# Altium integrated library Linear Technology Power Management Switching Regulator LTC1174-LTC3901.IntLib: 2647 symbols (part 221 of 364)
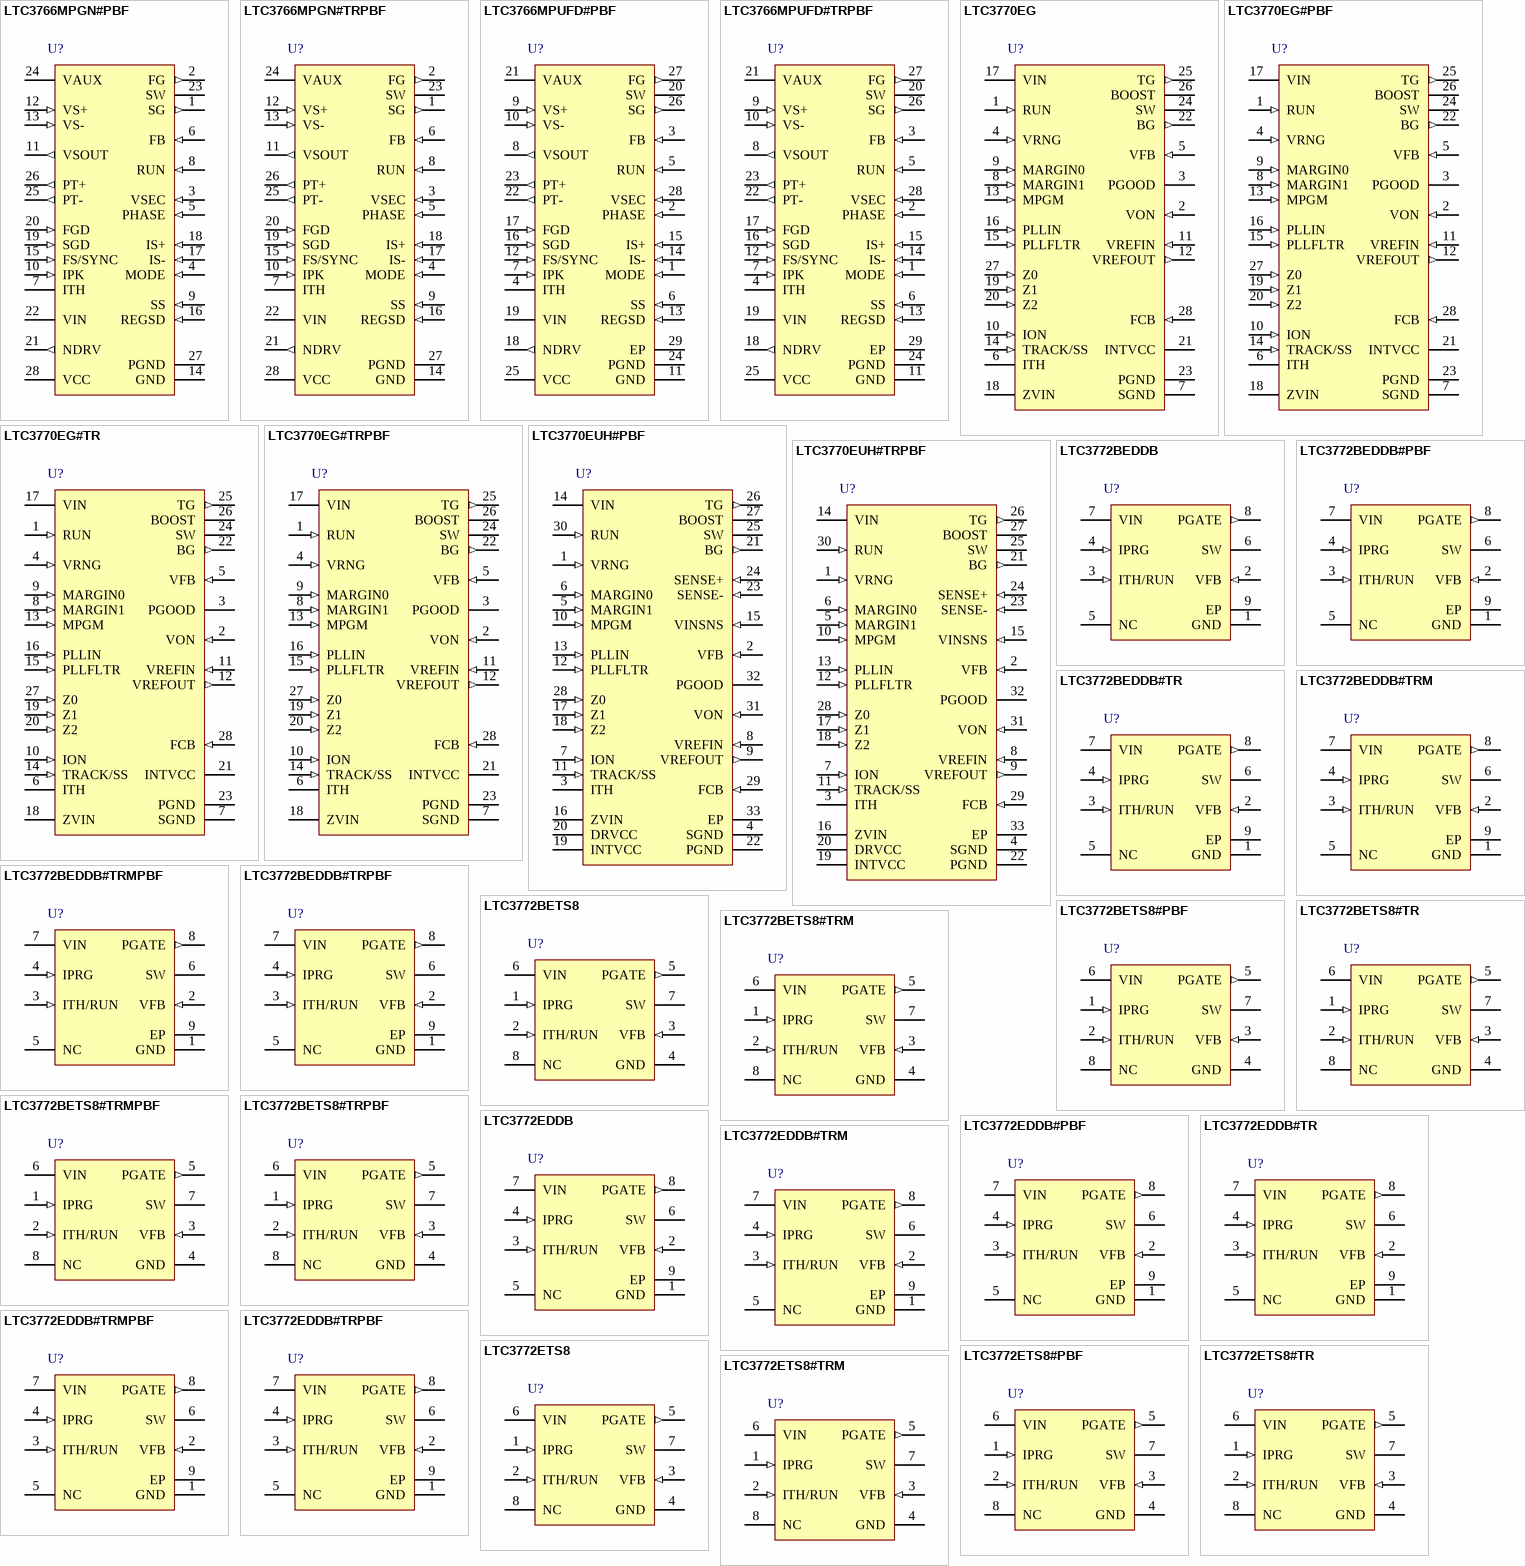
[diagram p329: symbols LTC3766MPGN#PBF to LTC3772ETS8#TRM]

## LTC3772BETS8#TR
designator U?
Micropower No Rsense Constant Frequency Step-Down DC/DC Controller, 8-pin SOT23 (TS8-8), -40 to 85 degC, Tape and Reel; Manufacturer: Linear Technology; PartNumber: LTC3772BETS8#TR; Number of Outputs: 1; DatasheetVersion: Rev. A; PackageVersion: Rev. A, 08/2010; PackageReference: TS8-8; PackageDescription: 8-Pin Plastic TSOT-23, Body 2.9 x 1.63 mm, Pitch 0.65 mm; Packing: Tape and Reel; RoHS: FALSE; Mounting Technology: Surface Mount; Code_JEDEC: MO-193; ComponentLink1Description: Manufacturer URL; ComponentLink1URL: http://www.linear.com/; ComponentLink2Description: Datasheet; ComponentLink2URL: http://cds.linear.com/docs/en/datasheet/3772bfa.pdf; ComponentLink3Description: Package Specification; ComponentLink3URL: http://cds.linear.com/docs/en/packaging/SOT_8_05-08-1637.pdf
footprint LT-TS8-8-TSOT-23_V (SOT23, 8-Leads, Body 2.9x1.75mm, Pitch 0.65mm)
pins: 1 IPRG (in) "Current Sense Limit Pin. Three-state pin selects maximum peak sense voltage threshold. The pin selects the maximum voltage drop across the external P-channel MOSFET.", 2 ITH/RUN (in) "This pin performs two functions. It serves as the error amplifier compensation point as well as the run control input. Nominal voltage range for this pin is 0.7V to 1.9V. Forcing this pin below 0.6V causes the device to be (See Datasheet)", 3 VFB (in) "Receives the feedback voltage from an external resistor divider across the output.", 4 GND (power) "Ground Pin.", 5 PGATE (out) "Gate Drive for the External P-Channel MOSFET. This pin swings from 0V to VIN.", 6 VIN (power) "Supply and Current Sense Input Pin. This pin must be closely decoupled to GND (Pin 4). Normally the external P-channel MOSFET’s source is connected to this pin.", 7 SW "Switch Node Connection to Inductor and Current Sense Input Pin. Normally, the external P-channel MOSFET’s drain is connected to this pin.", 8 NC "No Connection Required."

## LTC3772BETS8#TRM
designator U?
Micropower No Rsense Constant Frequency Step-Down DC/DC Controller, 8-pin SOT23 (TS8-8), -40 to 85 degC, Mini Tape and Reel; Manufacturer: Linear Technology; PartNumber: LTC3772BETS8#TRM; Number of Outputs: 1; DatasheetVersion: Rev. A; PackageVersion: Rev. A, 08/2010; PackageReference: TS8-8; PackageDescription: 8-Pin Plastic TSOT-23, Body 2.9 x 1.63 mm, Pitch 0.65 mm; Packing: Mini Tape and Reel; RoHS: FALSE; Mounting Technology: Surface Mount; Code_JEDEC: MO-193; ComponentLink1Description: Manufacturer URL; ComponentLink1URL: http://www.linear.com/; ComponentLink2Description: Datasheet; ComponentLink2URL: http://cds.linear.com/docs/en/datasheet/3772bfa.pdf; ComponentLink3Description: Package Specification; ComponentLink3URL: http://cds.linear.com/docs/en/packaging/SOT_8_05-08-1637.pdf
footprint LT-TS8-8-TSOT-23_V (SOT23, 8-Leads, Body 2.9x1.75mm, Pitch 0.65mm)
pins: 1 IPRG (in) "Current Sense Limit Pin. Three-state pin selects maximum peak sense voltage threshold. The pin selects the maximum voltage drop across the external P-channel MOSFET.", 2 ITH/RUN (in) "This pin performs two functions. It serves as the error amplifier compensation point as well as the run control input. Nominal voltage range for this pin is 0.7V to 1.9V. Forcing this pin below 0.6V causes the device to be (See Datasheet)", 3 VFB (in) "Receives the feedback voltage from an external resistor divider across the output.", 4 GND (power) "Ground Pin.", 5 PGATE (out) "Gate Drive for the External P-Channel MOSFET. This pin swings from 0V to VIN.", 6 VIN (power) "Supply and Current Sense Input Pin. This pin must be closely decoupled to GND (Pin 4). Normally the external P-channel MOSFET’s source is connected to this pin.", 7 SW "Switch Node Connection to Inductor and Current Sense Input Pin. Normally, the external P-channel MOSFET’s drain is connected to this pin.", 8 NC "No Connection Required."

## LTC3772BETS8#TRMPBF
designator U?
Micropower No Rsense Constant Frequency Step-Down DC/DC Controller, 8-pin SOT23 (TS8-8), -40 to 85 degC, Pb-Free, Mini Tape and Reel; Manufacturer: Linear Technology; PartNumber: LTC3772BETS8#TRMPBF; Number of Outputs: 1; DatasheetVersion: Rev. A; PackageVersion: Rev. A, 08/2010; PackageReference: TS8-8; PackageDescription: 8-Pin Plastic TSOT-23, Body 2.9 x 1.63 mm, Pitch 0.65 mm; Supplier 1: Digi-Key; Supplier Part Number 1: LTC3772BETS8#TRMPBF-ND; Packing: Mini Tape and Reel; RoHS: TRUE; Mounting Technology: Surface Mount; Code_JEDEC: MO-193; ComponentLink1Description: Manufacturer URL; ComponentLink1URL: http://www.linear.com/; ComponentLink2Description: Datasheet; ComponentLink2URL: http://cds.linear.com/docs/en/datasheet/3772bfa.pdf; ComponentLink3Description: Package Specification; ComponentLink3URL: http://cds.linear.com/docs/en/packaging/SOT_8_05-08-1637.pdf
footprint LT-TS8-8-TSOT-23_V (SOT23, 8-Leads, Body 2.9x1.75mm, Pitch 0.65mm)
pins: 1 IPRG (in) "Current Sense Limit Pin. Three-state pin selects maximum peak sense voltage threshold. The pin selects the maximum voltage drop across the external P-channel MOSFET.", 2 ITH/RUN (in) "This pin performs two functions. It serves as the error amplifier compensation point as well as the run control input. Nominal voltage range for this pin is 0.7V to 1.9V. Forcing this pin below 0.6V causes the device to be (See Datasheet)", 3 VFB (in) "Receives the feedback voltage from an external resistor divider across the output.", 4 GND (power) "Ground Pin.", 5 PGATE (out) "Gate Drive for the External P-Channel MOSFET. This pin swings from 0V to VIN.", 6 VIN (power) "Supply and Current Sense Input Pin. This pin must be closely decoupled to GND (Pin 4). Normally the external P-channel MOSFET’s source is connected to this pin.", 7 SW "Switch Node Connection to Inductor and Current Sense Input Pin. Normally, the external P-channel MOSFET’s drain is connected to this pin.", 8 NC "No Connection Required."

## LTC3772BETS8#TRPBF
designator U?
Micropower No Rsense Constant Frequency Step-Down DC/DC Controller, 8-pin SOT23 (TS8-8), -40 to 85 degC, Pb-Free, Tape and Reel; Manufacturer: Linear Technology; PartNumber: LTC3772BETS8#TRPBF; Number of Outputs: 1; DatasheetVersion: Rev. A; PackageVersion: Rev. A, 08/2010; PackageReference: TS8-8; PackageDescription: 8-Pin Plastic TSOT-23, Body 2.9 x 1.63 mm, Pitch 0.65 mm; Supplier 1: Digi-Key; Supplier Part Number 1: LTC3772BETS8#TRPBF-ND; Packing: Tape and Reel; RoHS: TRUE; Mounting Technology: Surface Mount; Code_JEDEC: MO-193; ComponentLink1Description: Manufacturer URL; ComponentLink1URL: http://www.linear.com/; ComponentLink2Description: Datasheet; ComponentLink2URL: http://cds.linear.com/docs/en/datasheet/3772bfa.pdf; ComponentLink3Description: Package Specification; ComponentLink3URL: http://cds.linear.com/docs/en/packaging/SOT_8_05-08-1637.pdf
footprint LT-TS8-8-TSOT-23_V (SOT23, 8-Leads, Body 2.9x1.75mm, Pitch 0.65mm)
pins: 1 IPRG (in) "Current Sense Limit Pin. Three-state pin selects maximum peak sense voltage threshold. The pin selects the maximum voltage drop across the external P-channel MOSFET.", 2 ITH/RUN (in) "This pin performs two functions. It serves as the error amplifier compensation point as well as the run control input. Nominal voltage range for this pin is 0.7V to 1.9V. Forcing this pin below 0.6V causes the device to be (See Datasheet)", 3 VFB (in) "Receives the feedback voltage from an external resistor divider across the output.", 4 GND (power) "Ground Pin.", 5 PGATE (out) "Gate Drive for the External P-Channel MOSFET. This pin swings from 0V to VIN.", 6 VIN (power) "Supply and Current Sense Input Pin. This pin must be closely decoupled to GND (Pin 4). Normally the external P-channel MOSFET’s source is connected to this pin.", 7 SW "Switch Node Connection to Inductor and Current Sense Input Pin. Normally, the external P-channel MOSFET’s drain is connected to this pin.", 8 NC "No Connection Required."

## LTC3772EDDB
designator U?
Micropower No Rsense Constant Frequency Step-Down DC/DC Controller, 8-pin SON (DDB-8), -40 to 85 degC; Manufacturer: Linear Technology; PartNumber: LTC3772EDDB; Number of Outputs: 1; PackageVersion: Rev. B, 06/2010; PackageReference: DDB-8; PackageDescription: 8-Pin Plastic DFN, Body 3 x 2 mm, Pitch 0.5 mm; RoHS: FALSE; Mounting Technology: Surface Mount; Code_JEDEC: MO-229; ComponentLink1Description: Manufacturer URL; ComponentLink1URL: http://www.linear.com/; ComponentLink2Description: Datasheet; ComponentLink2URL: http://cds.linear.com/docs/en/datasheet/3772f.pdf; ComponentLink3Description: Package Specification; ComponentLink3URL: http://cds.linear.com/docs/en/packaging/DFN_8_05-08-1702.pdf
footprint LT-DDB-8_V (SON, 8-Leads, Body 3x2mm, Pitch 0.5mm, Thermal Pad 2.2x0.61mm)
pins: 1 GND (power) "Ground Pin.", 2 VFB (in) "Receives the feedback voltage from an external resistor divider across the output.", 3 ITH/RUN (in) "This pin performs two functions. It serves as the error amplifier compensation point as well as the run control input. Nominal voltage range for this pin is 0.7V to 1.9V. Forcing this pin below 0.6V causes the device to be (See Datasheet)", 4 IPRG (in) "Shutdown and external soft-start pin. In shutdown, all functions are disabled and the NGATE pin is held low.", 5 NC "No Connection Required.", 6 SW "Switch Node Connection to Inductor and Current Sense Input Pin. Normally, the external P-channel MOSFET’s drain is connected to this pin.", 7 VIN (power) "Supply and Current Sense Input Pin. This pin must be closely decoupled to GND (Pin 4). Normally the external P-channel MOSFET’s source is connected to this pin.", 8 PGATE (out) "Gate Drive for the External P-Channel MOSFET. This pin swings from 0V to VIN.", 9 EP (power) "The Exposed Pad is ground and must be soldered to the PCB for electrical connection and optimum thermal performance."

## LTC3772EDDB#PBF
designator U?
Micropower No Rsense Constant Frequency Step-Down DC/DC Controller, 8-pin SON (DDB-8), -40 to 85 degC, Pb-Free; Manufacturer: Linear Technology; PartNumber: LTC3772EDDB#PBF; Number of Outputs: 1; PackageVersion: Rev. B, 06/2010; PackageReference: DDB-8; PackageDescription: 8-Pin Plastic DFN, Body 3 x 2 mm, Pitch 0.5 mm; RoHS: TRUE; Mounting Technology: Surface Mount; Code_JEDEC: MO-229; ComponentLink1Description: Manufacturer URL; ComponentLink1URL: http://www.linear.com/; ComponentLink2Description: Datasheet; ComponentLink2URL: http://cds.linear.com/docs/en/datasheet/3772f.pdf; ComponentLink3Description: Package Specification; ComponentLink3URL: http://cds.linear.com/docs/en/packaging/DFN_8_05-08-1702.pdf
footprint LT-DDB-8_V (SON, 8-Leads, Body 3x2mm, Pitch 0.5mm, Thermal Pad 2.2x0.61mm)
pins: 1 GND (power) "Ground Pin.", 2 VFB (in) "Receives the feedback voltage from an external resistor divider across the output.", 3 ITH/RUN (in) "This pin performs two functions. It serves as the error amplifier compensation point as well as the run control input. Nominal voltage range for this pin is 0.7V to 1.9V. Forcing this pin below 0.6V causes the device to be (See Datasheet)", 4 IPRG (in) "Shutdown and external soft-start pin. In shutdown, all functions are disabled and the NGATE pin is held low.", 5 NC "No Connection Required.", 6 SW "Switch Node Connection to Inductor and Current Sense Input Pin. Normally, the external P-channel MOSFET’s drain is connected to this pin.", 7 VIN (power) "Supply and Current Sense Input Pin. This pin must be closely decoupled to GND (Pin 4). Normally the external P-channel MOSFET’s source is connected to this pin.", 8 PGATE (out) "Gate Drive for the External P-Channel MOSFET. This pin swings from 0V to VIN.", 9 EP (power) "The Exposed Pad is ground and must be soldered to the PCB for electrical connection and optimum thermal performance."